# Altium schematic symbol library Speaker.SchLib: 1 symbol
Pins are listed as number, name and electrical type; pins without a type are passive.

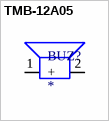
[diagram p0: symbol TMB-12A05]

## TMB-12A05
designator BUZ?
footprint TMB-12A05
pins: 1 +, 2